# Altium schematic symbol library SCH - POWER - LINEAR VREG - TI TLV1117LV12_DCY_4.SchLib: 1 symbol
Pins are listed as number, name and electrical type; pins without a type are passive.

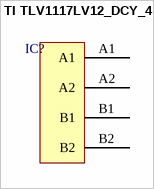
[diagram p0: symbol TI TLV1117LV12_DCY_4]

## TI TLV1117LV12_DCY_4
designator IC?  (value not drawn)
pins: A1, A2, B1, B2